# EAGLE library part W25Q32JVSSIQ (library angrypig7-IC)
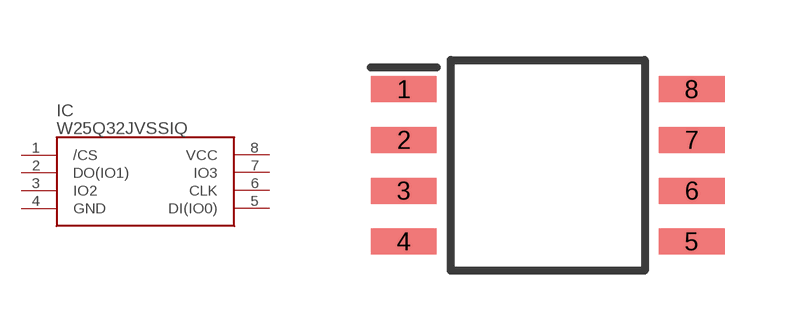
[diagram p3: symbol with the pads of SOIC-8_208MIL; footprint SOIC-8_208MIL]

Designator prefix IC

## W25Q32JVSSIQ  [SOIC-8_208MIL]
1  /CS
2  DO(IO1)
3  IO2
4  GND
5  DI(IO0)
6  CLK
7  IO3
8  VCC

## Footprint SOIC-8_208MIL (pad centres in mm)
smd 1.65 x 0.65: 1 -3.6,1.905; 2 -3.6,0.635; 3 -3.6,-0.635; 4 -3.6,-1.905; 5 3.6,-1.905; 6 3.6,-0.635; 7 3.6,0.635; 8 3.6,1.905